# Altium schematic symbol library DL4148.SchLib: 1 symbol
Pins are listed as number, name and electrical type; pins without a type are passive.

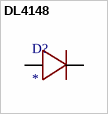
[diagram p0: symbol DL4148]

## DL4148
designator D?
footprint DL-35 (MELF Diode, 2-Leads, Body 3,60x1,47mm)
pins: 1, 2